# Altium schematic symbol library CRYSTAL 4P.Schlib: 1 symbol
Pins are listed as number, name and electrical type; pins without a type are passive.

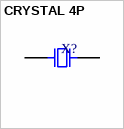
[diagram p0: symbol CRYSTAL 4P]

## CRYSTAL 4P
designator X?
pins: 1, 2 NC hidden, 3 NC hidden, 4